# Altium schematic symbol library micro-philips.SCHLIB: 58 symbols
Pins are listed as number, name and electrical type; pins without a type are passive.

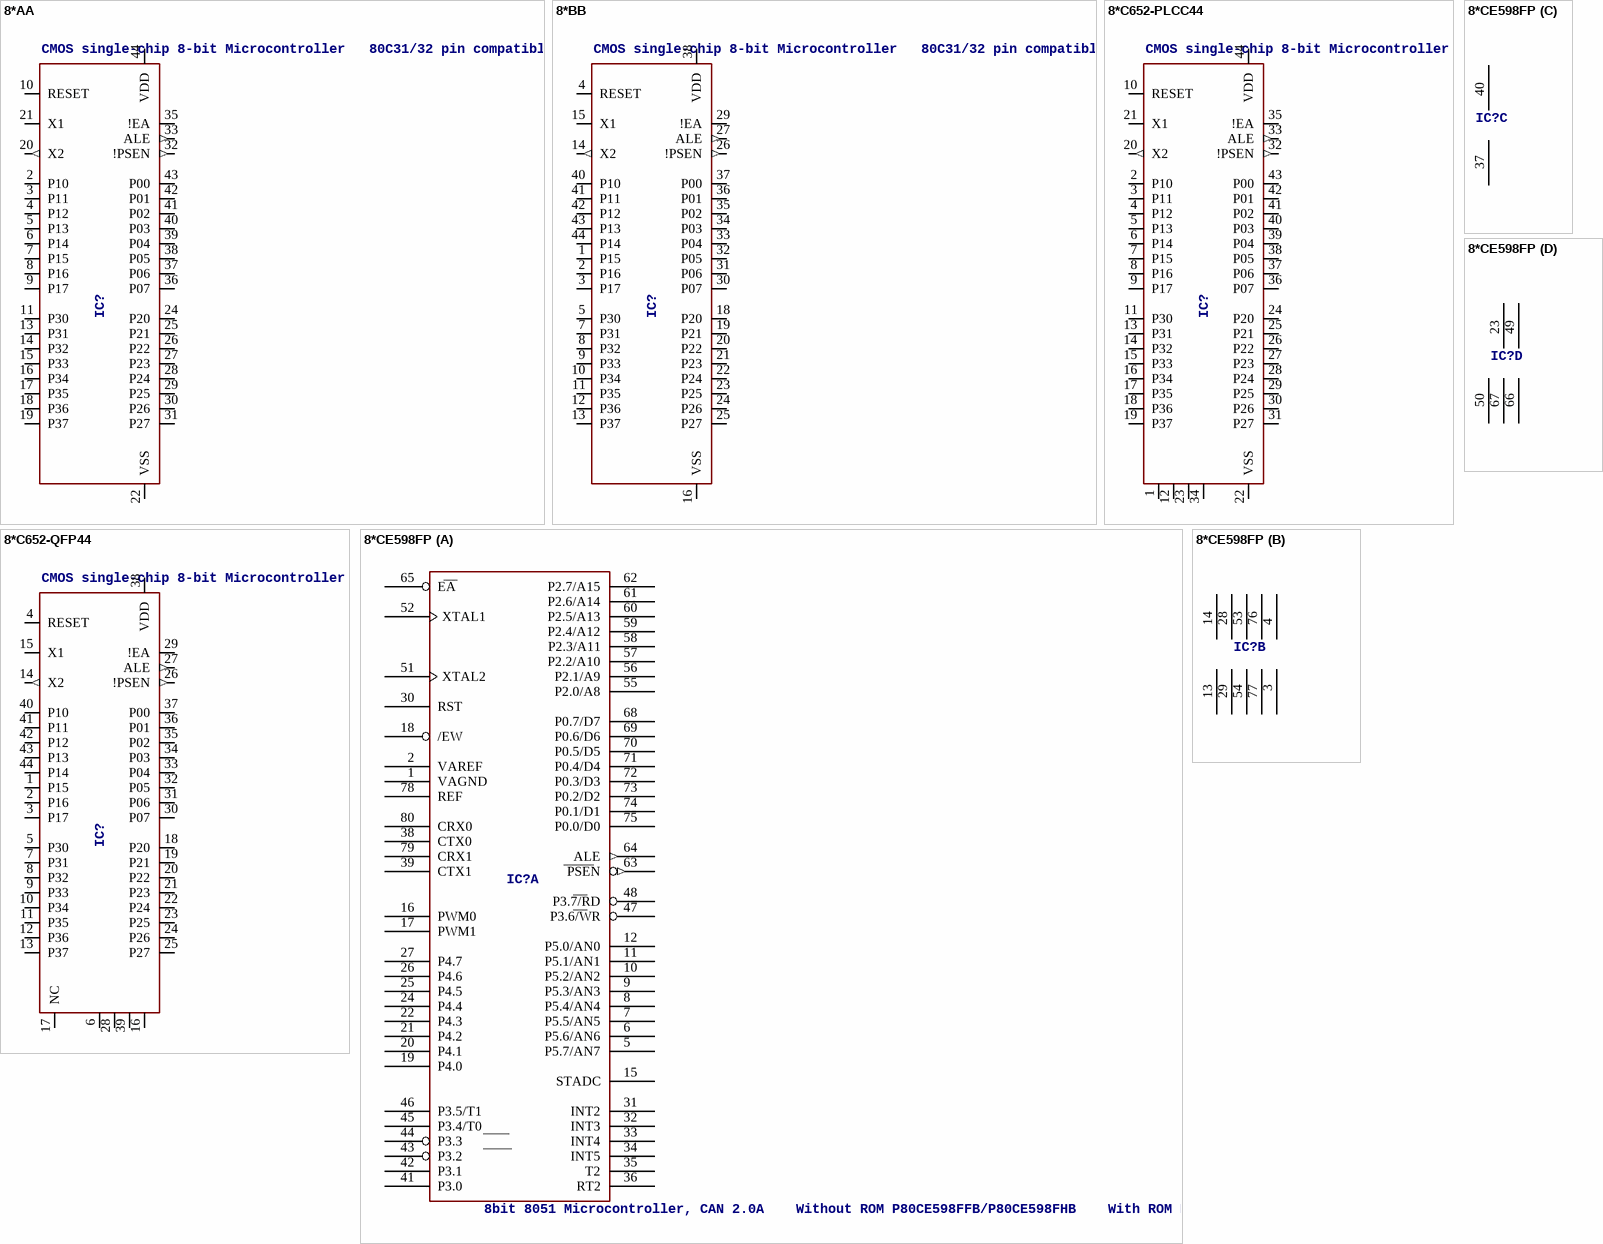
[diagram p0: symbols 8*AA to 8*CE598FP]

## 8*AA
designator IC?, comment CMOS single-chip 8-bit Microcontroller   80C31/32 pin compatible
MPN: P80C31SBAA,512; MPN: P80C32SBAA,512; MPN: P80C32UBAA; MPN: P80C32UFAA,512; OC_FARNELL: 1831226; OC_NEWARK: 70R8431; OC_FARNELL: unknown; OC_NEWARK: unknown; OC_FARNELL: 1831229; OC_NEWARK: 70R8434; OC_FARNELL: 1201265; OC_NEWARK: 24M6583; OC_NEWARK: 70R8437
footprint PLCC44S
pins: 2 P10, 3 P11, 4 P12, 5 P13, 6 P14, 7 P15, 8 P16, 9 P17, 10 RESET, 11 P30, 13 P31, 14 P32, 15 P33, 16 P34, 17 P35, 18 P36, 19 P37, 20 X2 (out), 21 X1, 22 VSS (power), 24 P20, 25 P21, 26 P22, 27 P23, 28 P24, 29 P25, 30 P26, 31 P27, 32 !PSEN (out), 33 ALE (out), 35 !EA, 36 P07, 37 P06, 38 P05, 39 P04, 40 P03, 41 P02, 42 P01, 43 P00, 44 VDD (power)

## 8*BB
designator IC?, comment CMOS single-chip 8-bit Microcontroller   80C31/32 pin compatible
MPN: P80C31SBBB,557; MPN: P80C32UFBB,557; OC_FARNELL: unknown; OC_NEWARK: 70R8432; OC_NEWARK: unknown; OC_NEWARK: 70R8438
footprint QFP44_SOT307-2
pins: 1 P15, 2 P16, 3 P17, 4 RESET, 5 P30, 7 P31, 8 P32, 9 P33, 10 P34, 11 P35, 12 P36, 13 P37, 14 X2 (out), 15 X1, 16 VSS (power), 18 P20, 19 P21, 20 P22, 21 P23, 22 P24, 23 P25, 24 P26, 25 P27, 26 !PSEN (out), 27 ALE (out), 29 !EA, 30 P07, 31 P06, 32 P05, 33 P04, 34 P03, 35 P02, 36 P01, 37 P00, 38 VDD (power), 40 P10, 41 P11, 42 P12, 43 P13, 44 P14

## 8*C652-PLCC44
designator IC?, comment CMOS single-chip 8-bit Microcontroller
OC_FARNELL: unknown; OC_NEWARK: unknown
footprint PLCC44S
pins: 1 NC, 2 P10, 3 P11, 4 P12, 5 P13, 6 P14, 7 P15, 8 P16, 9 P17, 10 RESET, 11 P30, 12 NC@1, 13 P31, 14 P32, 15 P33, 16 P34, 17 P35, 18 P36, 19 P37, 20 X2 (out), 21 X1, 22 VSS (power), 23 NC@2, 24 P20, 25 P21, 26 P22, 27 P23, 28 P24, 29 P25, 30 P26, 31 P27, 32 !PSEN (out), 33 ALE (out), 34 NC@3, 35 !EA, 36 P07, 37 P06, 38 P05, 39 P04, 40 P03, 41 P02, 42 P01, 43 P00, 44 VDD (power)

## 8*C652-QFP44
designator IC?, comment CMOS single-chip 8-bit Microcontroller
OC_FARNELL: unknown; OC_NEWARK: unknown
footprint QFP44_SOT307-2
pins: 1 P15, 2 P16, 3 P17, 4 RESET, 5 P30, 6 VSS@3, 7 P31, 8 P32, 9 P33, 10 P34, 11 P35, 12 P36, 13 P37, 14 X2 (out), 15 X1, 16 VSS (power), 17 NC, 18 P20, 19 P21, 20 P22, 21 P23, 22 P24, 23 P25, 24 P26, 25 P27, 26 !PSEN (out), 27 ALE (out), 28 VSS@2, 29 !EA, 30 P07, 31 P06, 32 P05, 33 P04, 34 P03, 35 P02, 36 P01, 37 P00, 38 VDD (power), 39 VSS@1, 40 P10, 41 P11, 42 P12, 43 P13, 44 P14

## 8*CE598FP
designator IC?, comment 8bit 8051 Microcontroller, CAN 2.0A    Without ROM P80CE598FFB/P80CE598FHB    With ROM P83CE598FFB/P83CE598FHB
OC_FARNELL: unknown; OC_NEWARK: unknown
footprint QFP80
part A pins: 1 VAGND, 2 VAREF, 5 P5.7/AN7, 6 P5.6/AN6, 7 P5.5/AN5, 8 P5.4/AN4, 9 P5.3/AN3, 10 P5.2/AN2, 11 P5.1/AN1, 12 P5.0/AN0, 15 STADC, 16 PWM0, 17 PWM1, 18 /EW, 19 P4.0, 20 P4.1, 21 P4.2, 22 P4.3, 24 P4.4, 25 P4.5, 26 P4.6, 27 P4.7, 30 RST, 31 INT2, 32 INT3, 33 INT4, 34 INT5, 35 T2, 36 RT2, 38 CTX0, 39 CTX1, 41 P3.0, 42 P3.1, 43 P3.2, 44 P3.3, 45 P3.4/T0, 46 P3.5/T1, 47 P3.6/WR, 48 P3.7/RD, 51 XTAL2, 52 XTAL1, 55 P2.0/A8, 56 P2.1/A9, 57 P2.2/A10, 58 P2.3/A11, 59 P2.4/A12, 60 P2.5/A13, 61 P2.6/A14, 62 P2.7/A15, 63 PSEN (out), 64 ALE (out), 65 EA, 68 P0.7/D7, 69 P0.6/D6, 70 P0.5/D5, 71 P0.4/D4, 72 P0.3/D3, 73 P0.2/D2, 74 P0.1/D1, 75 P0.0/D0, 78 REF, 79 CRX1, 80 CRX0
part B pins: 3 GND@4 (power), 4 VCC@4 (power), 13 GND@0 (power), 14 VCC@0 (power), 28 VCC@1 (power), 29 GND@1 (power), 53 VCC@2 (power), 54 GND@2 (power), 76 VCC@3 (power), 77 GND@3 (power)
part C pins: 37 CGND (power), 40 CVCC (power)
part D pins: 23 NC@0, 49 NC@1, 50 NC@2, 66 NC@3, 67 NC@4

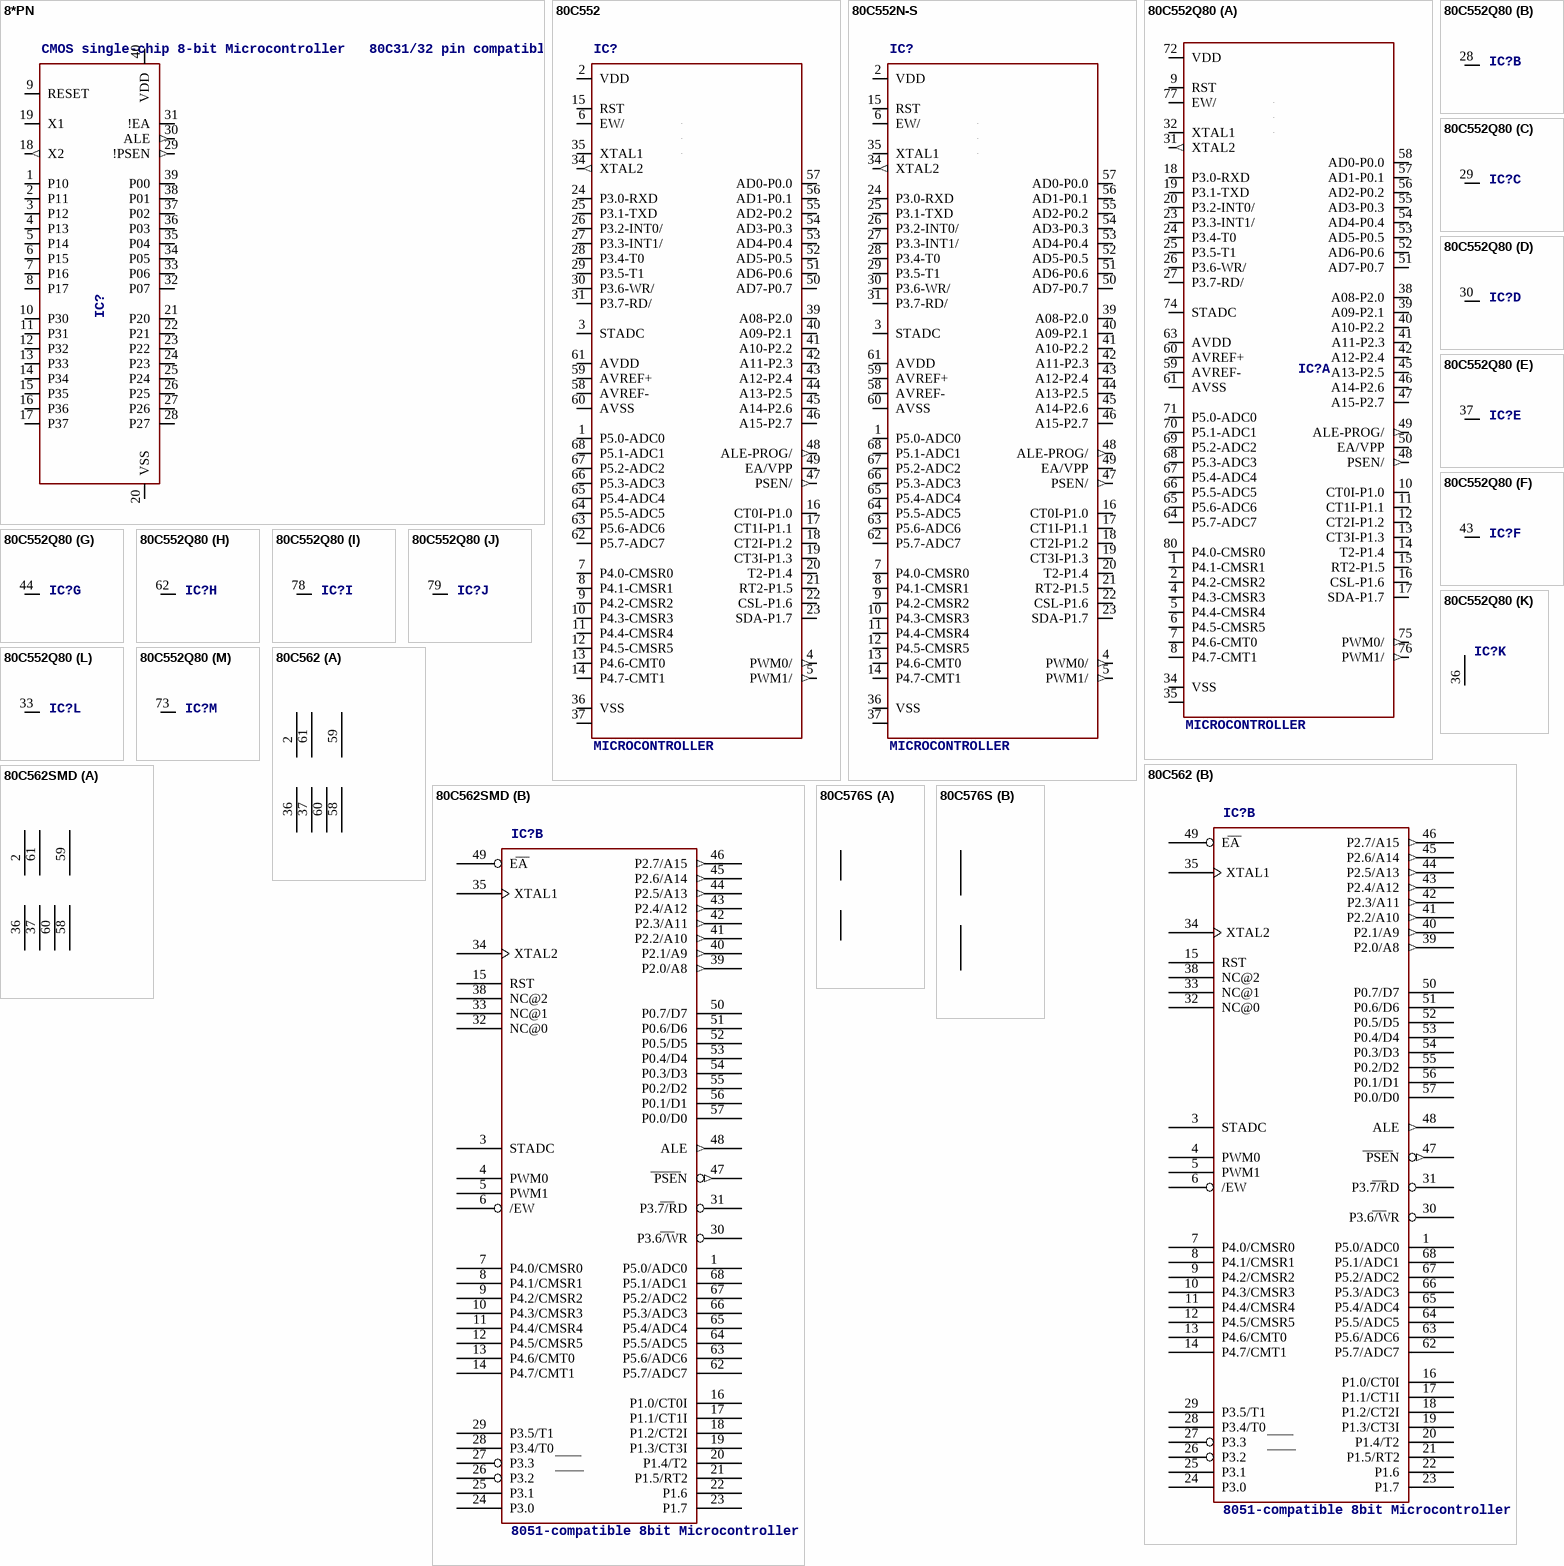
[diagram p1: symbols 8*PN to 80C576S]

## 8*PN
designator IC?, comment CMOS single-chip 8-bit Microcontroller   80C31/32 pin compatible
MPN: P80C31SBPN; MPN: P80C32SBPN; MF: FARNELL; OC_FARNELL: 120509; OC_NEWARK: 67C9971; OC_FARNELL: 121071; OC_NEWARK: 67C9973; OC_FARNELL: unknown; OC_NEWARK: unknown
footprint DIL40
pins: 1 P10, 2 P11, 3 P12, 4 P13, 5 P14, 6 P15, 7 P16, 8 P17, 9 RESET, 10 P30, 11 P31, 12 P32, 13 P33, 14 P34, 15 P35, 16 P36, 17 P37, 18 X2 (out), 19 X1, 20 VSS (power), 21 P20, 22 P21, 23 P22, 24 P23, 25 P24, 26 P25, 27 P26, 28 P27, 29 !PSEN (out), 30 ALE (out), 31 !EA, 32 P07, 33 P06, 34 P05, 35 P04, 36 P03, 37 P02, 38 P01, 39 P00, 40 VDD (power)

## 80C552
designator IC?, comment MICROCONTROLLER
MPN: P80C552IBA/08,512; OC_FARNELL: 1831232; OC_NEWARK: 70R8448
footprint PLCC68
pins: 1 P5.0-ADC0, 2 VDD (power), 3 STADC, 4 PWM0/ (out), 5 PWM1/ (out), 6 EW/, 7 P4.0-CMSR0, 8 P4.1-CMSR1, 9 P4.2-CMSR2, 10 P4.3-CMSR3, 11 P4.4-CMSR4, 12 P4.5-CMSR5, 13 P4.6-CMT0, 14 P4.7-CMT1, 15 RST, 16 CT0I-P1.0, 17 CT1I-P1.1, 18 CT2I-P1.2, 19 CT3I-P1.3, 20 T2-P1.4, 21 RT2-P1.5, 22 CSL-P1.6, 23 SDA-P1.7, 24 P3.0-RXD, 25 P3.1-TXD, 26 P3.2-INT0/, 27 P3.3-INT1/, 28 P3.4-T0, 29 P3.5-T1, 30 P3.6-WR/, 31 P3.7-RD/, 32 NC1, 33 NC2, 34 XTAL2 (out), 35 XTAL1, 36 VSS (power), 37 VSS@1 (power), 38 NC3, 39 A08-P2.0, 40 A09-P2.1, 41 A10-P2.2, 42 A11-P2.3, 43 A12-P2.4, 44 A13-P2.5, 45 A14-P2.6, 46 A15-P2.7, 47 PSEN/ (out), 48 ALE-PROG/ (out), 49 EA/VPP, 50 AD7-P0.7, 51 AD6-P0.6, 52 AD5-P0.5, 53 AD4-P0.4, 54 AD3-P0.3, 55 AD2-P0.2, 56 AD1-P0.1, 57 AD0-P0.0, 58 AVREF-, 59 AVREF+, 60 AVSS, 61 AVDD, 62 P5.7-ADC7, 63 P5.6-ADC6, 64 P5.5-ADC5, 65 P5.4-ADC4, 66 P5.3-ADC3, 67 P5.2-ADC2, 68 P5.1-ADC1

## 80C552N-S
designator IC?, comment MICROCONTROLLER
MPN: P80C552IBA/08,512; OC_FARNELL: 1831233; OC_NEWARK: 70R8448
footprint PLCC-S68
pins: 1 P5.0-ADC0, 2 VDD (power), 3 STADC, 4 PWM0/ (out), 5 PWM1/ (out), 6 EW/, 7 P4.0-CMSR0, 8 P4.1-CMSR1, 9 P4.2-CMSR2, 10 P4.3-CMSR3, 11 P4.4-CMSR4, 12 P4.5-CMSR5, 13 P4.6-CMT0, 14 P4.7-CMT1, 15 RST, 16 CT0I-P1.0, 17 CT1I-P1.1, 18 CT2I-P1.2, 19 CT3I-P1.3, 20 T2-P1.4, 21 RT2-P1.5, 22 CSL-P1.6, 23 SDA-P1.7, 24 P3.0-RXD, 25 P3.1-TXD, 26 P3.2-INT0/, 27 P3.3-INT1/, 28 P3.4-T0, 29 P3.5-T1, 30 P3.6-WR/, 31 P3.7-RD/, 32 NC1, 33 NC2, 34 XTAL2 (out), 35 XTAL1, 36 VSS (power), 37 VSS@1 (power), 38 NC3, 39 A08-P2.0, 40 A09-P2.1, 41 A10-P2.2, 42 A11-P2.3, 43 A12-P2.4, 44 A13-P2.5, 45 A14-P2.6, 46 A15-P2.7, 47 PSEN/ (out), 48 ALE-PROG/ (out), 49 EA/VPP, 50 AD7-P0.7, 51 AD6-P0.6, 52 AD5-P0.5, 53 AD4-P0.4, 54 AD3-P0.3, 55 AD2-P0.2, 56 AD1-P0.1, 57 AD0-P0.0, 58 AVREF-, 59 AVREF+, 60 AVSS, 61 AVDD, 62 P5.7-ADC7, 63 P5.6-ADC6, 64 P5.5-ADC5, 65 P5.4-ADC4, 66 P5.3-ADC3, 67 P5.2-ADC2, 68 P5.1-ADC1

## 80C552Q80
designator IC?, comment MICROCONTROLLER
OC_FARNELL: unknown; OC_NEWARK: unknown
footprint QFP80R
part A pins: 1 P4.1-CMSR1, 2 P4.2-CMSR2, 3 NC1, 4 P4.3-CMSR3, 5 P4.4-CMSR4, 6 P4.5-CMSR5, 7 P4.6-CMT0, 8 P4.7-CMT1, 9 RST, 10 CT0I-P1.0, 11 CT1I-P1.1, 12 CT2I-P1.2, 13 CT3I-P1.3, 14 T2-P1.4, 15 RT2-P1.5, 16 CSL-P1.6, 17 SDA-P1.7, 18 P3.0-RXD, 19 P3.1-TXD, 20 P3.2-INT0/, 21 NC2, 22 NC3, 23 P3.3-INT1/, 24 P3.4-T0, 25 P3.5-T1, 26 P3.6-WR/, 27 P3.7-RD/, 31 XTAL2 (out), 32 XTAL1, 34 VSS (power), 35 VSS@1 (power), 38 A08-P2.0, 39 A09-P2.1, 40 A10-P2.2, 41 A11-P2.3, 42 A12-P2.4, 45 A13-P2.5, 46 A14-P2.6, 47 A15-P2.7, 48 PSEN/ (out), 49 ALE-PROG/ (out), 50 EA/VPP, 51 AD7-P0.7, 52 AD6-P0.6, 53 AD5-P0.5, 54 AD4-P0.4, 55 AD3-P0.3, 56 AD2-P0.2, 57 AD1-P0.1, 58 AD0-P0.0, 59 AVREF-, 60 AVREF+, 61 AVSS, 63 AVDD, 64 P5.7-ADC7, 65 P5.6-ADC6, 66 P5.5-ADC5, 67 P5.4-ADC4, 68 P5.3-ADC3, 69 P5.2-ADC2, 70 P5.1-ADC1, 71 P5.0-ADC0, 72 VDD (power), 74 STADC, 75 PWM0/ (out), 76 PWM1/ (out), 77 EW/, 80 P4.0-CMSR0
part B pins: 28 NC
part C pins: 29 NC
part D pins: 30 NC
part E pins: 37 NC
part F pins: 43 NC
part G pins: 44 NC
part H pins: 62 NC
part I pins: 78 NC
part J pins: 79 NC
part K pins: 36 VSS (power)
part L pins: 33 IC-NU
part M pins: 73 IC-NU

## 80C562
designator IC?, comment 8051-compatible 8bit Microcontroller
MPN: P80C562EBA/02,512; OC_FARNELL: 121198; OC_NEWARK: 70R8452
footprint PLCC-S68
part A pins: 2 VDD (power), 36 VSS@0 (power), 37 VSS@1 (power), 58 AVREF- (power), 59 VREF (power), 60 AVSS (power), 61 AVDD (power)
part B pins: 1 P5.0/ADC0, 3 STADC, 4 PWM0, 5 PWM1, 6 /EW, 7 P4.0/CMSR0, 8 P4.1/CMSR1, 9 P4.2/CMSR2, 10 P4.3/CMSR3, 11 P4.4/CMSR4, 12 P4.5/CMSR5, 13 P4.6/CMT0, 14 P4.7/CMT1, 15 RST, 16 P1.0/CT0I, 17 P1.1/CT1I, 18 P1.2/CT2I, 19 P1.3/CT3I, 20 P1.4/T2, 21 P1.5/RT2, 22 P1.6, 23 P1.7, 24 P3.0, 25 P3.1, 26 P3.2, 27 P3.3, 28 P3.4/T0, 29 P3.5/T1, 30 P3.6/WR, 31 P3.7/RD, 32 NC@0, 33 NC@1, 34 XTAL2, 35 XTAL1, 38 NC@2, 39 P2.0/A8 (out), 40 P2.1/A9 (out), 41 P2.2/A10 (out), 42 P2.3/A11 (out), 43 P2.4/A12 (out), 44 P2.5/A13 (out), 45 P2.6/A14 (out), 46 P2.7/A15 (out), 47 PSEN (out), 48 ALE (out), 49 EA, 50 P0.7/D7, 51 P0.6/D6, 52 P0.5/D5, 53 P0.4/D4, 54 P0.3/D3, 55 P0.2/D2, 56 P0.1/D1, 57 P0.0/D0, 62 P5.7/ADC7, 63 P5.6/ADC6, 64 P5.5/ADC5, 65 P5.4/ADC4, 66 P5.3/ADC3, 67 P5.2/ADC2, 68 P5.1/ADC1

## 80C562SMD
designator IC?, comment 8051-compatible 8bit Microcontroller
OC_FARNELL: unknown; OC_NEWARK: unknown
footprint PLCC68
part A pins: 2 VDD (power), 36 VSS@0 (power), 37 VSS@1 (power), 58 AVREF- (power), 59 VREF (power), 60 AVSS (power), 61 AVDD (power)
part B pins: 1 P5.0/ADC0, 3 STADC, 4 PWM0, 5 PWM1, 6 /EW, 7 P4.0/CMSR0, 8 P4.1/CMSR1, 9 P4.2/CMSR2, 10 P4.3/CMSR3, 11 P4.4/CMSR4, 12 P4.5/CMSR5, 13 P4.6/CMT0, 14 P4.7/CMT1, 15 RST, 16 P1.0/CT0I, 17 P1.1/CT1I, 18 P1.2/CT2I, 19 P1.3/CT3I, 20 P1.4/T2, 21 P1.5/RT2, 22 P1.6, 23 P1.7, 24 P3.0, 25 P3.1, 26 P3.2, 27 P3.3, 28 P3.4/T0, 29 P3.5/T1, 30 P3.6/WR, 31 P3.7/RD, 32 NC@0, 33 NC@1, 34 XTAL2, 35 XTAL1, 38 NC@2, 39 P2.0/A8 (out), 40 P2.1/A9 (out), 41 P2.2/A10 (out), 42 P2.3/A11 (out), 43 P2.4/A12 (out), 44 P2.5/A13 (out), 45 P2.6/A14 (out), 46 P2.7/A15 (out), 47 PSEN (out), 48 ALE (out), 49 EA, 50 P0.7/D7, 51 P0.6/D6, 52 P0.5/D5, 53 P0.4/D4, 54 P0.3/D3, 55 P0.2/D2, 56 P0.1/D1, 57 P0.0/D0, 62 P5.7/ADC7, 63 P5.6/ADC6, 64 P5.5/ADC5, 65 P5.4/ADC4, 66 P5.3/ADC3, 67 P5.2/ADC2, 68 P5.1/ADC1

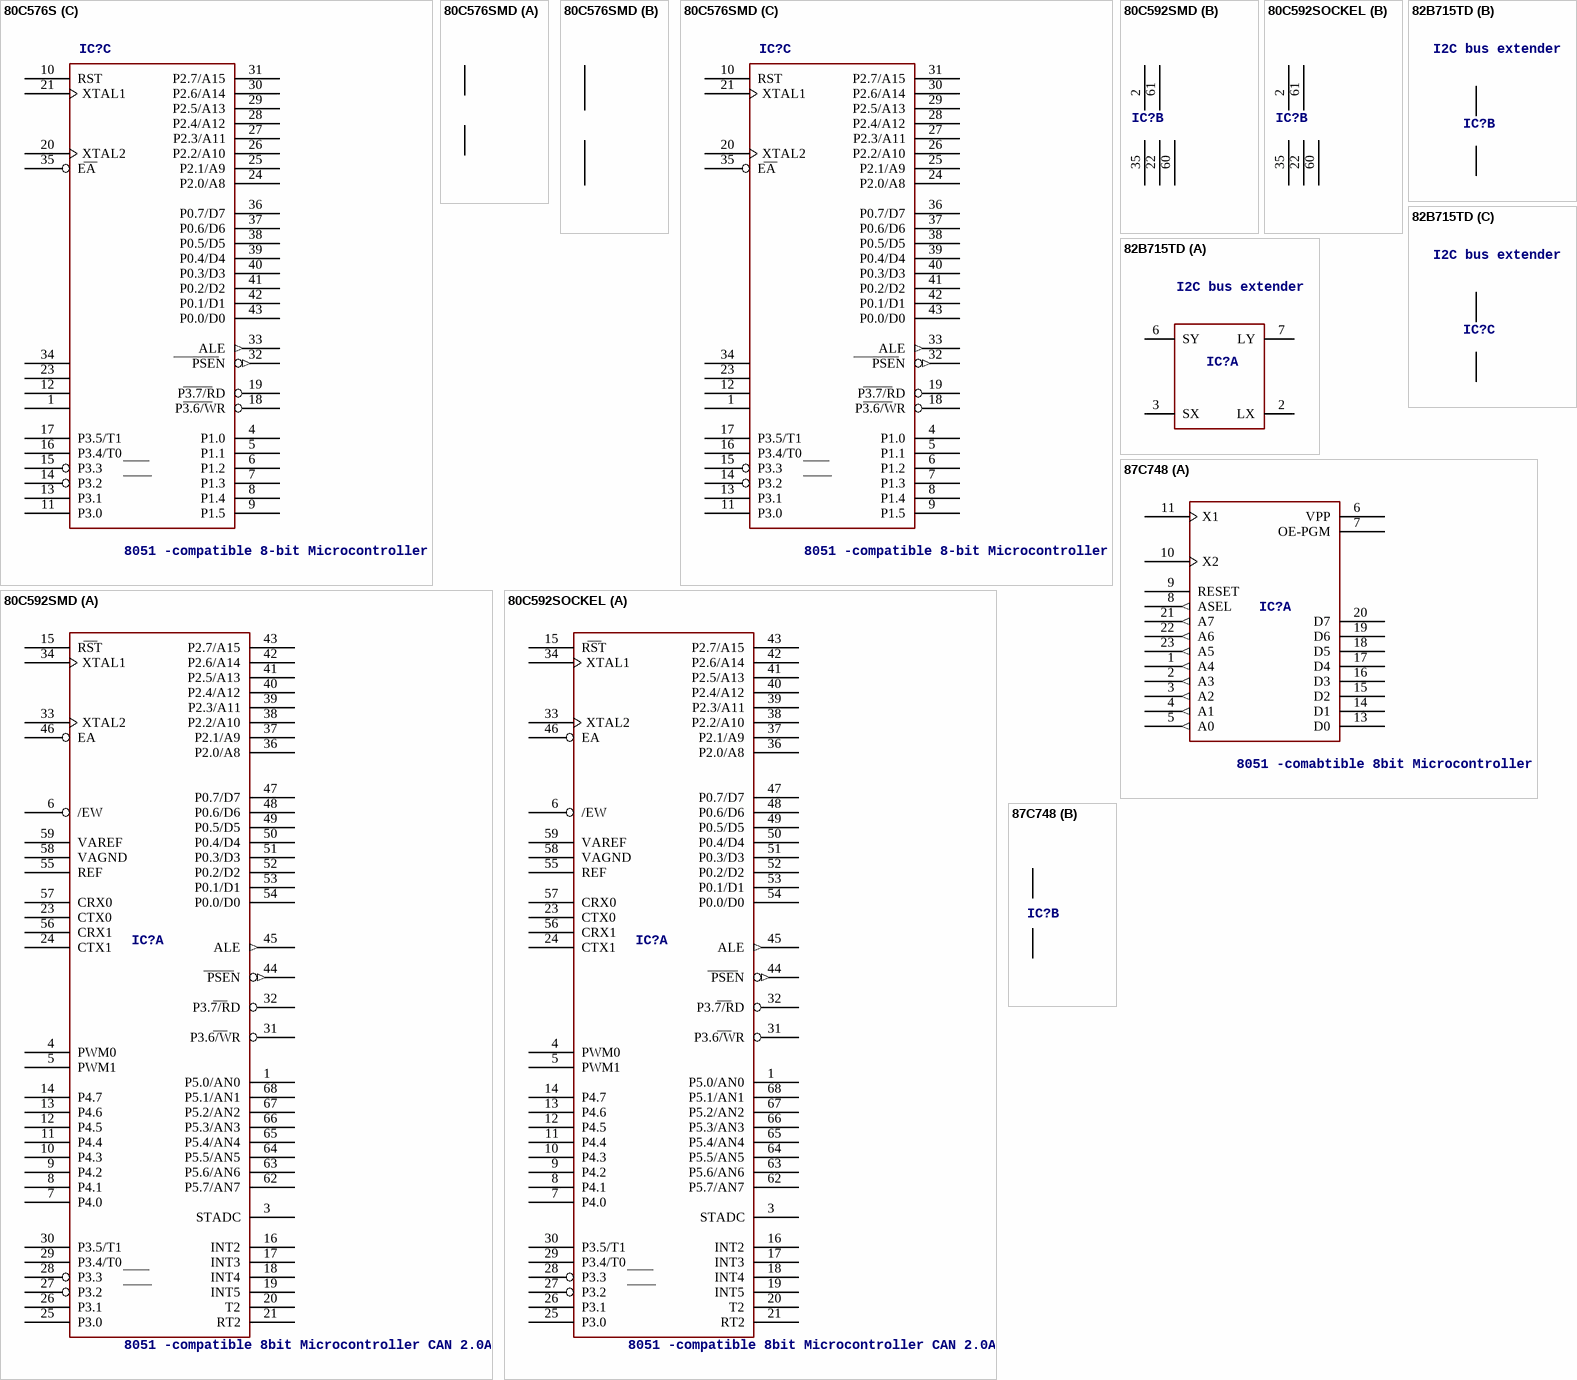
[diagram p2: symbols 80C576S to 87C748]

## 80C576S
designator IC?, comment 8051 -compatible 8-bit Microcontroller
OC_FARNELL: unknown; OC_NEWARK: unknown
footprint PLCC44S
part A pins: 22 GND (power), 44 VCC (power)
part B pins: 2 AVCC (power), 3 AGND (power)
part C pins: 1 NC@0, 4 P1.0, 5 P1.1, 6 P1.2, 7 P1.3, 8 P1.4, 9 P1.5, 10 RST, 11 P3.0, 12 NC@1, 13 P3.1, 14 P3.2, 15 P3.3, 16 P3.4/T0, 17 P3.5/T1, 18 P3.6/WR, 19 P3.7/RD, 20 XTAL2, 21 XTAL1, 23 NC@2, 24 P2.0/A8, 25 P2.1/A9, 26 P2.2/A10, 27 P2.3/A11, 28 P2.4/A12, 29 P2.5/A13, 30 P2.6/A14, 31 P2.7/A15, 32 PSEN (out), 33 ALE (out), 34 NC@3, 35 EA, 36 P0.7/D7, 37 P0.6/D6, 38 P0.5/D5, 39 P0.4/D4, 40 P0.3/D3, 41 P0.2/D2, 42 P0.1/D1, 43 P0.0/D0

## 80C576SMD
designator IC?, comment 8051 -compatible 8-bit Microcontroller
OC_FARNELL: unknown; OC_NEWARK: unknown
footprint PLCC44
part A pins: 22 GND (power), 44 VCC (power)
part B pins: 2 AVCC (power), 3 AGND (power)
part C pins: 1 NC@0, 4 P1.0, 5 P1.1, 6 P1.2, 7 P1.3, 8 P1.4, 9 P1.5, 10 RST, 11 P3.0, 12 NC@1, 13 P3.1, 14 P3.2, 15 P3.3, 16 P3.4/T0, 17 P3.5/T1, 18 P3.6/WR, 19 P3.7/RD, 20 XTAL2, 21 XTAL1, 23 NC@2, 24 P2.0/A8, 25 P2.1/A9, 26 P2.2/A10, 27 P2.3/A11, 28 P2.4/A12, 29 P2.5/A13, 30 P2.6/A14, 31 P2.7/A15, 32 PSEN (out), 33 ALE (out), 34 NC@3, 35 EA, 36 P0.7/D7, 37 P0.6/D6, 38 P0.5/D5, 39 P0.4/D4, 40 P0.3/D3, 41 P0.2/D2, 42 P0.1/D1, 43 P0.0/D0

## 80C592SMD
designator IC?, comment 8051 -compatible 8bit Microcontroller CAN 2.0A
MPN: P80C592FFA/00,512; OC_FARNELL: 1085276; OC_NEWARK: 70R8453
footprint PLCC68
part A pins: 1 P5.0/AN0, 3 STADC, 4 PWM0, 5 PWM1, 6 /EW, 7 P4.0, 8 P4.1, 9 P4.2, 10 P4.3, 11 P4.4, 12 P4.5, 13 P4.6, 14 P4.7, 15 RST, 16 INT2, 17 INT3, 18 INT4, 19 INT5, 20 T2, 21 RT2, 23 CTX0, 24 CTX1, 25 P3.0, 26 P3.1, 27 P3.2, 28 P3.3, 29 P3.4/T0, 30 P3.5/T1, 31 P3.6/WR, 32 P3.7/RD, 33 XTAL2, 34 XTAL1, 36 P2.0/A8, 37 P2.1/A9, 38 P2.2/A10, 39 P2.3/A11, 40 P2.4/A12, 41 P2.5/A13, 42 P2.6/A14, 43 P2.7/A15, 44 PSEN (out), 45 ALE (out), 46 EA, 47 P0.7/D7, 48 P0.6/D6, 49 P0.5/D5, 50 P0.4/D4, 51 P0.3/D3, 52 P0.2/D2, 53 P0.1/D1, 54 P0.0/D0, 55 REF, 56 CRX1, 57 CRX0, 58 VAGND, 59 VAREF, 62 P5.7/AN7, 63 P5.6/AN6, 64 P5.5/AN5, 65 P5.4/AN4, 66 P5.3/AN3, 67 P5.2/AN2, 68 P5.1/AN1
part B pins: 2 VCC (power), 22 CGND (power), 35 GND (power), 60 AGND (power), 61 AVCC (power)

## 80C592SOCKEL
designator IC?, comment 8051 -compatible 8bit Microcontroller CAN 2.0A
OC_FARNELL: unknown; OC_NEWARK: unknown
footprint PLCC-S68
part A pins: 1 P5.0/AN0, 3 STADC, 4 PWM0, 5 PWM1, 6 /EW, 7 P4.0, 8 P4.1, 9 P4.2, 10 P4.3, 11 P4.4, 12 P4.5, 13 P4.6, 14 P4.7, 15 RST, 16 INT2, 17 INT3, 18 INT4, 19 INT5, 20 T2, 21 RT2, 23 CTX0, 24 CTX1, 25 P3.0, 26 P3.1, 27 P3.2, 28 P3.3, 29 P3.4/T0, 30 P3.5/T1, 31 P3.6/WR, 32 P3.7/RD, 33 XTAL2, 34 XTAL1, 36 P2.0/A8, 37 P2.1/A9, 38 P2.2/A10, 39 P2.3/A11, 40 P2.4/A12, 41 P2.5/A13, 42 P2.6/A14, 43 P2.7/A15, 44 PSEN (out), 45 ALE (out), 46 EA, 47 P0.7/D7, 48 P0.6/D6, 49 P0.5/D5, 50 P0.4/D4, 51 P0.3/D3, 52 P0.2/D2, 53 P0.1/D1, 54 P0.0/D0, 55 REF, 56 CRX1, 57 CRX0, 58 VAGND, 59 VAREF, 62 P5.7/AN7, 63 P5.6/AN6, 64 P5.5/AN5, 65 P5.4/AN4, 66 P5.3/AN3, 67 P5.2/AN2, 68 P5.1/AN1
part B pins: 2 VCC (power), 22 CGND (power), 35 GND (power), 60 AGND (power), 61 AVCC (power)

## 82B715TD
designator IC?, comment I2C bus extender
MPN: P82B715TD,118; OC_FARNELL: 1627047; OC_NEWARK: 70R8457
footprint SO8
part A pins: 2 LX, 3 SX, 6 SY, 7 LY
part B pins: 4 GND (power), 8 VCC (power)
part C pins: 1 NC@1, 5 NC@0

## 87C748
designator IC?, comment 8051 -comabtible 8bit Microcontroller
OC_FARNELL: unknown; OC_NEWARK: unknown
footprint DIP24SKI
part A pins: 1 A4 (out), 2 A3 (out), 3 A2 (out), 4 A1 (out), 5 A0 (out), 6 VPP (power), 7 OE-PGM, 8 ASEL (out), 9 RESET, 10 X2, 11 X1, 13 D0 (hiz), 14 D1 (hiz), 15 D2 (hiz), 16 D3 (hiz), 17 D4 (hiz), 18 D5 (hiz), 19 D6 (hiz), 20 D7 (hiz), 21 A7 (out), 22 A6 (out), 23 A5 (out)
part B pins: 12 GND (power), 24 VCC (power)

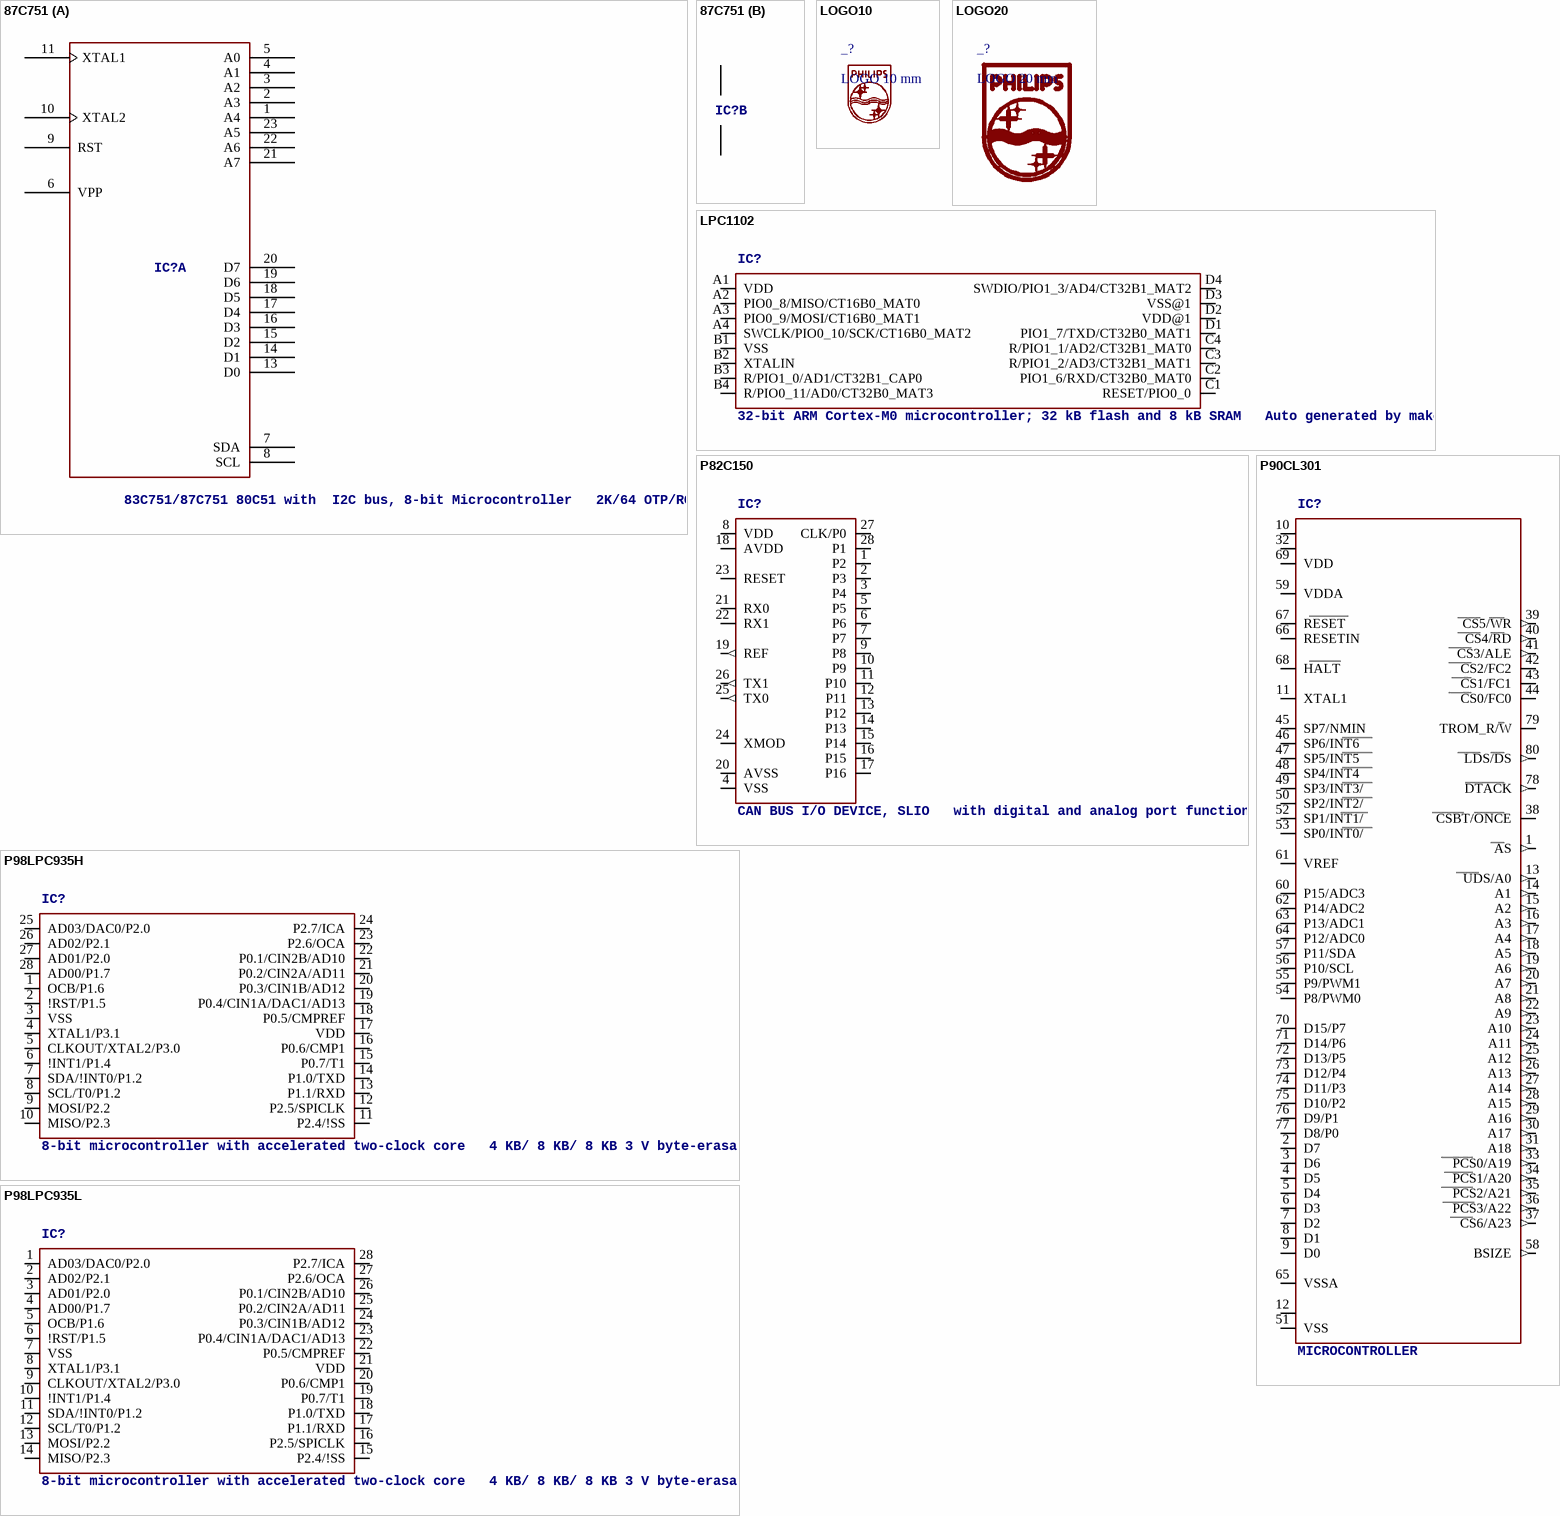
[diagram p3: symbols 87C751 to P98LPC935L]

## 87C751
designator IC?, comment 83C751/87C751 80C51 with  I2C bus, 8-bit Microcontroller   2K/64 OTP/ROM
OC_FARNELL: unknown; OC_NEWARK: unknown
footprint DIP24SKI
part A pins: 1 A4, 2 A3, 3 A2, 4 A1, 5 A0, 6 VPP (power), 7 SDA, 8 SCL, 9 RST, 10 XTAL2, 11 XTAL1, 13 D0, 14 D1, 15 D2, 16 D3, 17 D4, 18 D5, 19 D6, 20 D7, 21 A7, 22 A6, 23 A5
part B pins: 12 GND (power), 24 VCC (power)

## LOGO10
designator _?, comment LOGO 10 mm

## LOGO20
designator _?, comment LOGO 20 mm

## LPC1102
designator IC?, comment 32-bit ARM Cortex-M0 microcontroller; 32 kB flash and 8 kB SRAM   Auto generated by make-symbol-device-package-bsdl.ulp Rev. 43 Source:  Data sheet
footprint WLCSP16
pins: A1 VDD (power), A2 PIO0_8/MISO/CT16B0_MAT0, A3 PIO0_9/MOSI/CT16B0_MAT1, A4 SWCLK/PIO0_10/SCK/CT16B0_MAT2, B1 VSS (power), B2 XTALIN, B3 R/PIO1_0/AD1/CT32B1_CAP0, B4 R/PIO0_11/AD0/CT32B0_MAT3, C1 RESET/PIO0_0, C2 PIO1_6/RXD/CT32B0_MAT0, C3 R/PIO1_2/AD3/CT32B1_MAT1, C4 R/PIO1_1/AD2/CT32B1_MAT0, D1 PIO1_7/TXD/CT32B0_MAT1, D2 VDD@1 (power), D3 VSS@1 (power), D4 SWDIO/PIO1_3/AD4/CT32B1_MAT2

## P82C150
designator IC?, comment CAN BUS I/O DEVICE, SLIO   with digital and analog port functions
OC_FARNELL: unknown; OC_NEWARK: unknown
footprint SO28
pins: 1 P2, 2 P3, 3 P4, 4 VSS (power), 5 P5, 6 P6, 7 P7, 8 VDD (power), 9 P8, 10 P9, 11 P10, 12 P11, 13 P12, 14 P13, 15 P14, 16 P15, 17 P16, 18 AVDD, 19 REF (out), 20 AVSS, 21 RX0, 22 RX1, 23 RESET, 24 XMOD, 25 TX0 (out), 26 TX1 (out), 27 CLK/P0, 28 P1

## P90CL301
designator IC?, comment MICROCONTROLLER
OC_FARNELL: unknown; OC_NEWARK: unknown
footprint QFP12-80
pins: 1 AS (out), 2 D7, 3 D6, 4 D5, 5 D4, 6 D3, 7 D2, 8 D1, 9 D0, 10 VDD@2 (power), 11 XTAL1, 12 VSS@1 (power), 13 UDS/A0 (out), 14 A1 (out), 15 A2 (out), 16 A3 (out), 17 A4 (out), 18 A5 (out), 19 A6 (out), 20 A7 (out), 21 A8 (out), 22 A9 (out), 23 A10 (out), 24 A11 (out), 25 A12 (out), 26 A13 (out), 27 A14 (out), 28 A15 (out), 29 A16 (out), 30 A17 (out), 31 A18 (out), 32 VDD@1 (power), 33 PCS0/A19 (out), 34 PCS1/A20 (out), 35 PCS2/A21 (out), 36 PCS3/A22 (out), 37 CS6/A23 (out), 38 CSBT/ONCE, 39 CS5/WR (out), 40 CS4/RD (out), 41 CS3/ALE (out), 42 CS2/FC2, 43 CS1/FC1, 44 CS0/FC0, 45 SP7/NMIN, 46 SP6/INT6, 47 SP5/INT5, 48 SP4/INT4, 49 SP3/INT3/, 50 SP2/INT2/, 51 VSS (power), 52 SP1/INT1/, 53 SP0/INT0/, 54 P8/PWM0, 55 P9/PWM1, 56 P10/SCL, 57 P11/SDA, 58 BSIZE (out), 59 VDDA (power), 60 P15/ADC3, 61 VREF, 62 P14/ADC2, 63 P13/ADC1, 64 P12/ADC0, 65 VSSA (power), 66 RESETIN, 67 RESET, 68 HALT, 69 VDD (power), 70 D15/P7, 71 D14/P6, 72 D13/P5, 73 D12/P4, 74 D11/P3, 75 D10/P2, 76 D9/P1, 77 D8/P0, 78 DTACK (out), 79 TROM_R/W, 80 LDS/DS (out)

## P98LPC935H
designator IC?, comment 8-bit microcontroller with accelerated two-clock core   4 KB/ 8 KB/ 8 KB 3 V byte-erasable Flash with 8-bit A/D converter Source: http://www.nxp.com .. UM_P89LPC933_934_935_1.pdf
OC_FARNELL: unknown; OC_NEWARK: unknown
footprint HVQFN28
pins: 1 OCB/P1.6, 2 !RST/P1.5, 3 VSS, 4 XTAL1/P3.1, 5 CLKOUT/XTAL2/P3.0, 6 !INT1/P1.4, 7 SDA/!INT0/P1.2, 8 SCL/T0/P1.2, 9 MOSI/P2.2, 10 MISO/P2.3, 11 P2.4/!SS, 12 P2.5/SPICLK, 13 P1.1/RXD, 14 P1.0/TXD, 15 P0.7/T1, 16 P0.6/CMP1, 17 VDD, 18 P0.5/CMPREF, 19 P0.4/CIN1A/DAC1/AD13, 20 P0.3/CIN1B/AD12, 21 P0.2/CIN2A/AD11, 22 P0.1/CIN2B/AD10, 23 P2.6/OCA, 24 P2.7/ICA, 25 AD03/DAC0/P2.0, 26 AD02/P2.1, 27 AD01/P2.0, 28 AD00/P1.7

## P98LPC935L
designator IC?, comment 8-bit microcontroller with accelerated two-clock core   4 KB/ 8 KB/ 8 KB 3 V byte-erasable Flash with 8-bit A/D converter Source: http://www.nxp.com .. UM_P89LPC933_934_935_1.pdf
OC_FARNELL: unknown; OC_NEWARK: unknown
footprint PLCC28S
pins: 1 AD03/DAC0/P2.0, 2 AD02/P2.1, 3 AD01/P2.0, 4 AD00/P1.7, 5 OCB/P1.6, 6 !RST/P1.5, 7 VSS, 8 XTAL1/P3.1, 9 CLKOUT/XTAL2/P3.0, 10 !INT1/P1.4, 11 SDA/!INT0/P1.2, 12 SCL/T0/P1.2, 13 MOSI/P2.2, 14 MISO/P2.3, 15 P2.4/!SS, 16 P2.5/SPICLK, 17 P1.1/RXD, 18 P1.0/TXD, 19 P0.7/T1, 20 P0.6/CMP1, 21 VDD, 22 P0.5/CMPREF, 23 P0.4/CIN1A/DAC1/AD13, 24 P0.3/CIN1B/AD12, 25 P0.2/CIN2A/AD11, 26 P0.1/CIN2B/AD10, 27 P2.6/OCA, 28 P2.7/ICA

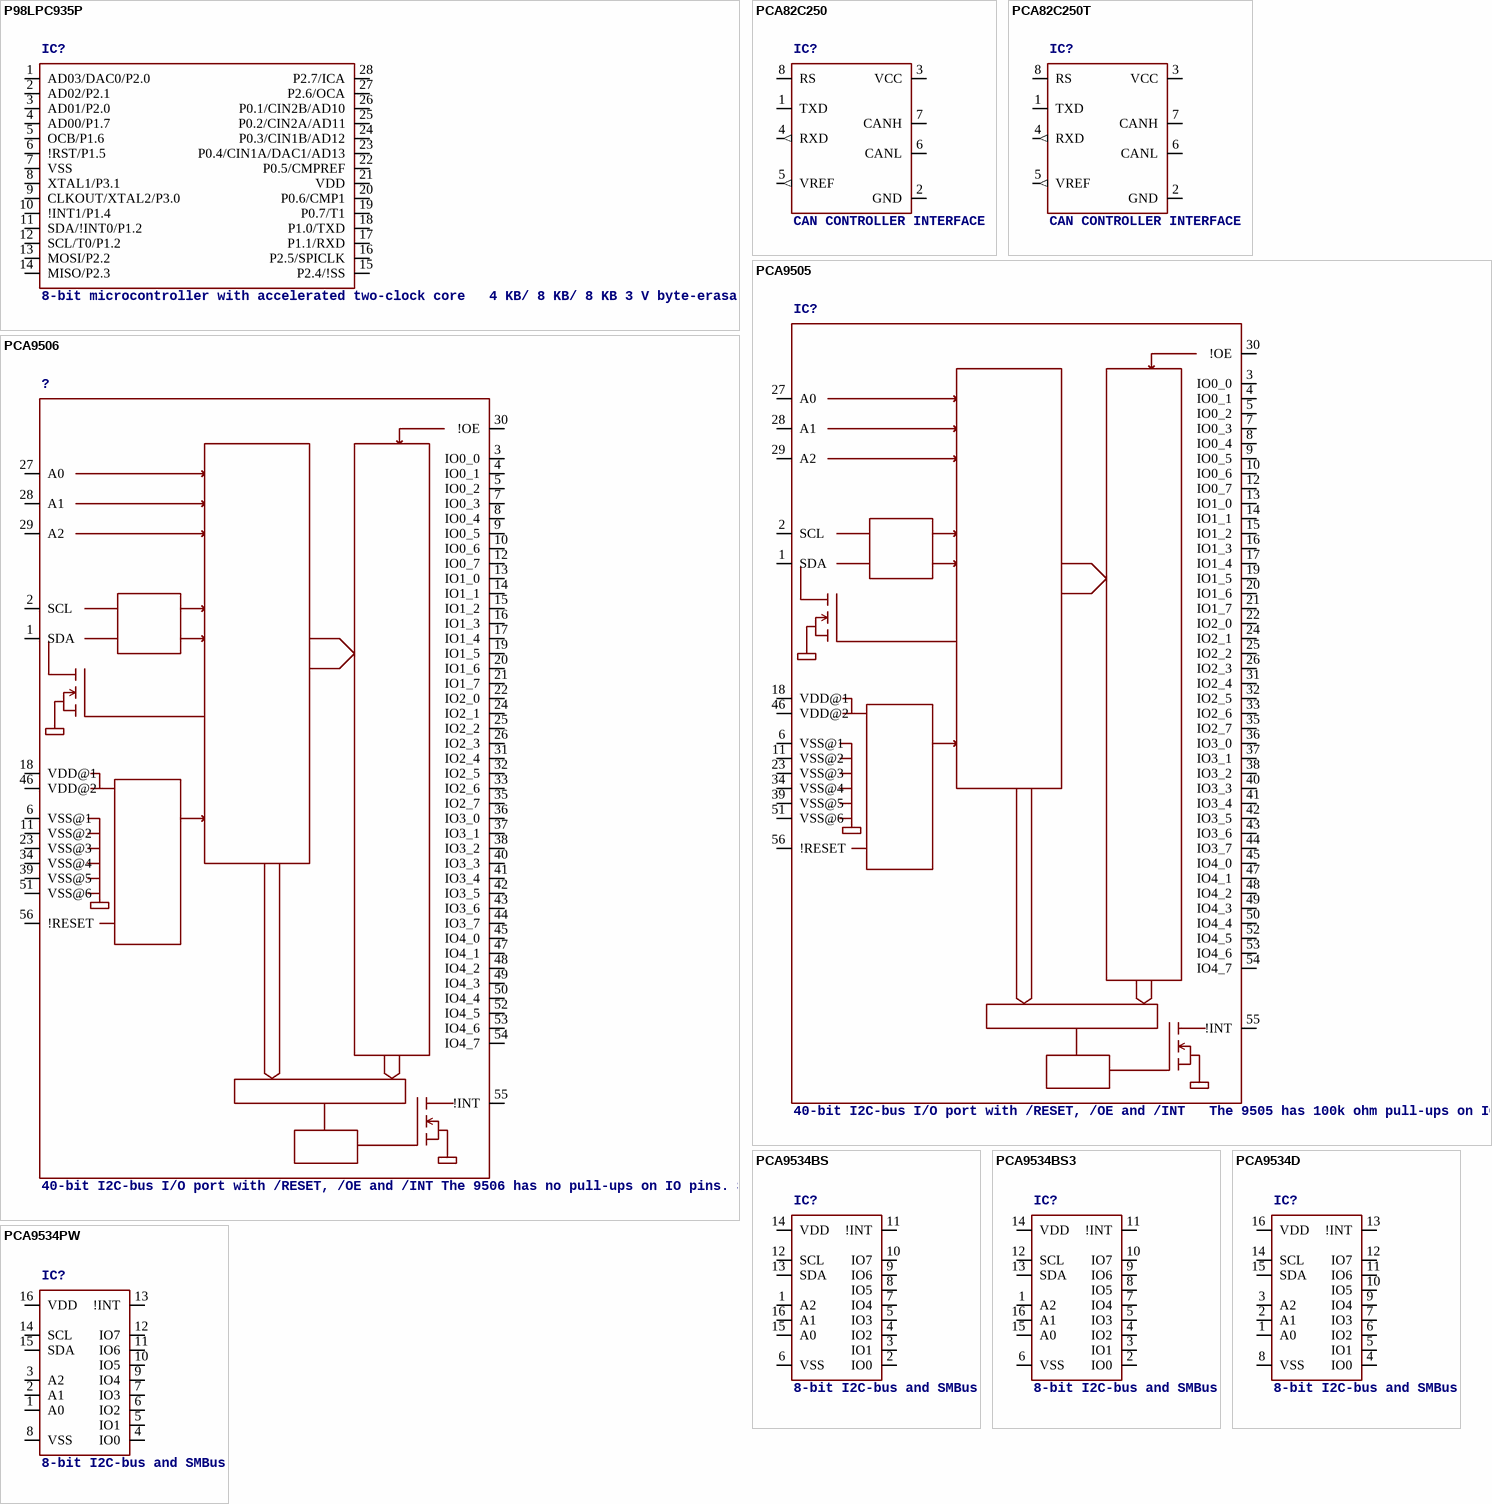
[diagram p4: symbols P98LPC935P to PCA9534PW]

## P98LPC935P
designator IC?, comment 8-bit microcontroller with accelerated two-clock core   4 KB/ 8 KB/ 8 KB 3 V byte-erasable Flash with 8-bit A/D converter Source: http://www.nxp.com .. UM_P89LPC933_934_935_1.pdf
OC_FARNELL: unknown; OC_NEWARK: unknown
footprint DIL28
pins: 1 AD03/DAC0/P2.0, 2 AD02/P2.1, 3 AD01/P2.0, 4 AD00/P1.7, 5 OCB/P1.6, 6 !RST/P1.5, 7 VSS, 8 XTAL1/P3.1, 9 CLKOUT/XTAL2/P3.0, 10 !INT1/P1.4, 11 SDA/!INT0/P1.2, 12 SCL/T0/P1.2, 13 MOSI/P2.2, 14 MISO/P2.3, 15 P2.4/!SS, 16 P2.5/SPICLK, 17 P1.1/RXD, 18 P1.0/TXD, 19 P0.7/T1, 20 P0.6/CMP1, 21 VDD, 22 P0.5/CMPREF, 23 P0.4/CIN1A/DAC1/AD13, 24 P0.3/CIN1B/AD12, 25 P0.2/CIN2A/AD11, 26 P0.1/CIN2B/AD10, 27 P2.6/OCA, 28 P2.7/ICA

## PCA82C250
designator IC?, comment CAN CONTROLLER INTERFACE
OC_FARNELL: 3692358; OC_NEWARK: unknown
footprint DIL08
pins: 1 TXD, 2 GND (power), 3 VCC (power), 4 RXD (out), 5 VREF (out), 6 CANL, 7 CANH, 8 RS

## PCA82C250T
designator IC?, comment CAN CONTROLLER INTERFACE
OC_FARNELL: 1085275; OC_NEWARK: unknown
footprint SO8
pins: 1 TXD, 2 GND (power), 3 VCC (power), 4 RXD (out), 5 VREF (out), 6 CANL, 7 CANH, 8 RS

## PCA9505
designator IC?, comment 40-bit I2C-bus I/O port with /RESET, /OE and /INT   The 9505 has 100k ohm pull-ups on IO pins. Source: http://www.nxp.com/acrobat_download/datasheets/PCA9505_9506_3.pdf
MPN: PCA9505DGG,118; OC_FARNELL: unknown; OC_NEWARK: 70R6450
footprint TSSOP56-6
pins: 1 SDA, 2 SCL, 3 IO0_0, 4 IO0_1, 5 IO0_2, 6 VSS@1 (power), 7 IO0_3, 8 IO0_4, 9 IO0_5, 10 IO0_6, 11 VSS@2 (power), 12 IO0_7, 13 IO1_0, 14 IO1_1, 15 IO1_2, 16 IO1_3, 17 IO1_4, 18 VDD@1 (power), 19 IO1_5, 20 IO1_6, 21 IO1_7, 22 IO2_0, 23 VSS@3 (power), 24 IO2_1, 25 IO2_2, 26 IO2_3, 27 A0, 28 A1, 29 A2, 30 !OE, 31 IO2_4, 32 IO2_5, 33 IO2_6, 34 VSS@4 (power), 35 IO2_7, 36 IO3_0, 37 IO3_1, 38 IO3_2, 39 VSS@5 (power), 40 IO3_3, 41 IO3_4, 42 IO3_5, 43 IO3_6, 44 IO3_7, 45 IO4_0, 46 VDD@2 (power), 47 IO4_1, 48 IO4_2, 49 IO4_3, 50 IO4_4, 51 VSS@6 (power), 52 IO4_5, 53 IO4_6, 54 IO4_7, 55 !INT, 56 !RESET

## PCA9506
designator ?, comment 40-bit I2C-bus I/O port with /RESET, /OE and /INT The 9506 has no pull-ups on IO pins. Source:  http://www.nxp.com/acrobat_download/datasheets/PCA9505_9506_3.pdf
MPN: PCA9506DGG,512; OC_FARNELL: unknown; OC_NEWARK: 70R6452
footprint TSSOP56-6
pins: 1 SDA, 2 SCL, 3 IO0_0, 4 IO0_1, 5 IO0_2, 6 VSS@1 (power), 7 IO0_3, 8 IO0_4, 9 IO0_5, 10 IO0_6, 11 VSS@2 (power), 12 IO0_7, 13 IO1_0, 14 IO1_1, 15 IO1_2, 16 IO1_3, 17 IO1_4, 18 VDD@1 (power), 19 IO1_5, 20 IO1_6, 21 IO1_7, 22 IO2_0, 23 VSS@3 (power), 24 IO2_1, 25 IO2_2, 26 IO2_3, 27 A0, 28 A1, 29 A2, 30 !OE, 31 IO2_4, 32 IO2_5, 33 IO2_6, 34 VSS@4 (power), 35 IO2_7, 36 IO3_0, 37 IO3_1, 38 IO3_2, 39 VSS@5 (power), 40 IO3_3, 41 IO3_4, 42 IO3_5, 43 IO3_6, 44 IO3_7, 45 IO4_0, 46 VDD@2 (power), 47 IO4_1, 48 IO4_2, 49 IO4_3, 50 IO4_4, 51 VSS@6 (power), 52 IO4_5, 53 IO4_6, 54 IO4_7, 55 !INT, 56 !RESET

## PCA9534BS
designator IC?, comment 8-bit I2C-bus and SMBus low power I/O port with interrupt   Source: www.nxp.com .. PCA9534_3.pdf
MPN: PCA9534BS,118; OC_FARNELL: unknown; OC_NEWARK: 70R6525
footprint HVQFN16_4X4
pins: 1 A2, 2 IO0, 3 IO1, 4 IO2, 5 IO3, 6 VSS (power), 7 IO4, 8 IO5, 9 IO6, 10 IO7, 11 !INT (oc), 12 SCL, 13 SDA, 14 VDD (power), 15 A0, 16 A1

## PCA9534BS3
designator IC?, comment 8-bit I2C-bus and SMBus low power I/O port with interrupt   Source: www.nxp.com .. PCA9534_3.pdf
MPN: PCA9534BS3,118; OC_FARNELL: unknown; OC_NEWARK: 70R6526
footprint HVQFN16_3X3
pins: 1 A2, 2 IO0, 3 IO1, 4 IO2, 5 IO3, 6 VSS (power), 7 IO4, 8 IO5, 9 IO6, 10 IO7, 11 !INT (oc), 12 SCL, 13 SDA, 14 VDD (power), 15 A0, 16 A1

## PCA9534D
designator IC?, comment 8-bit I2C-bus and SMBus low power I/O port with interrupt   Source: www.nxp.com .. PCA9534_3.pdf
MPN: PCA9534DB; OC_FARNELL: 1408284; OC_NEWARK: 18M7513
footprint SO16W
pins: 1 A0, 2 A1, 3 A2, 4 IO0, 5 IO1, 6 IO2, 7 IO3, 8 VSS (power), 9 IO4, 10 IO5, 11 IO6, 12 IO7, 13 !INT (oc), 14 SCL, 15 SDA, 16 VDD (power)

## PCA9534PW
designator IC?, comment 8-bit I2C-bus and SMBus low power I/O port with interrupt   Source: www.nxp.com .. PCA9534_3.pdf
MPN: PCA9534PW; OC_FARNELL: 1408285; OC_NEWARK: 18M7516
footprint TSSOP16
pins: 1 A0, 2 A1, 3 A2, 4 IO0, 5 IO1, 6 IO2, 7 IO3, 8 VSS (power), 9 IO4, 10 IO5, 11 IO6, 12 IO7, 13 !INT (oc), 14 SCL, 15 SDA, 16 VDD (power)

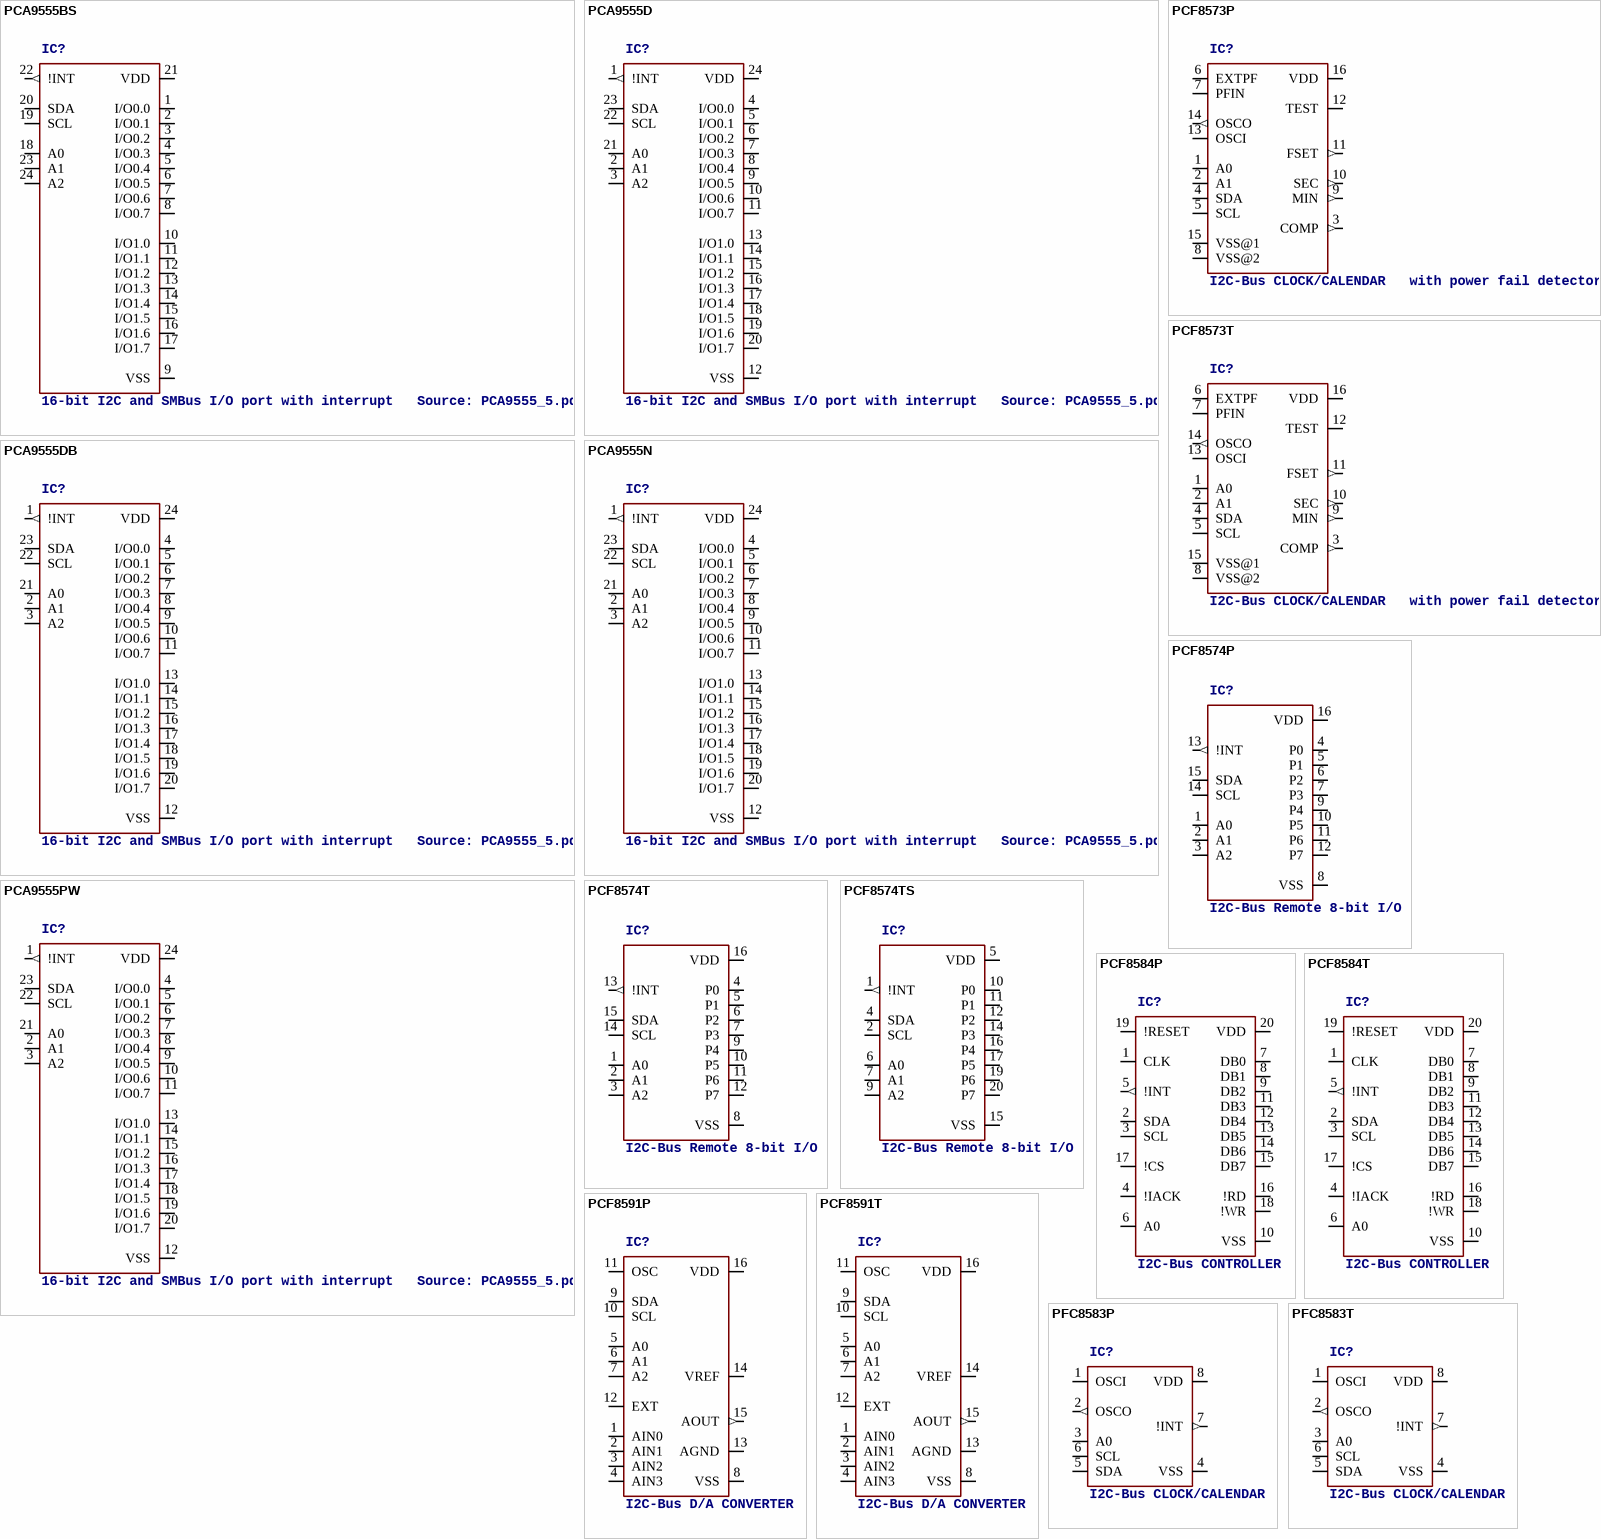
[diagram p5: symbols PCA9555BS to PFC8583T]

## PCA9555BS
designator IC?, comment 16-bit I2C and SMBus I/O port with interrupt   Source: PCA9555_5.pdf
MPN: PCA9555BS,118; OC_FARNELL: 1575354; OC_NEWARK: 70R6671
footprint HVQFN24
pins: 1 I/O0.0, 2 I/O0.1, 3 I/O0.2, 4 I/O0.3, 5 I/O0.4, 6 I/O0.5, 7 I/O0.6, 8 I/O0.7, 9 VSS (power), 10 I/O1.0, 11 I/O1.1, 12 I/O1.2, 13 I/O1.3, 14 I/O1.4, 15 I/O1.5, 16 I/O1.6, 17 I/O1.7, 18 A0, 19 SCL, 20 SDA, 21 VDD (power), 22 !INT (out), 23 A1, 24 A2

## PCA9555D
designator IC?, comment 16-bit I2C and SMBus I/O port with interrupt   Source: PCA9555_5.pdf
MPN: PCA9555DW; OC_FARNELL: 1408295; OC_NEWARK: 63K6067
footprint SO24
pins: 1 !INT (out), 2 A1, 3 A2, 4 I/O0.0, 5 I/O0.1, 6 I/O0.2, 7 I/O0.3, 8 I/O0.4, 9 I/O0.5, 10 I/O0.6, 11 I/O0.7, 12 VSS (power), 13 I/O1.0, 14 I/O1.1, 15 I/O1.2, 16 I/O1.3, 17 I/O1.4, 18 I/O1.5, 19 I/O1.6, 20 I/O1.7, 21 A0, 22 SCL, 23 SDA, 24 VDD (power)

## PCA9555DB
designator IC?, comment 16-bit I2C and SMBus I/O port with interrupt   Source: PCA9555_5.pdf
MPN: PCA9555DB; OC_FARNELL: 1408295; OC_NEWARK: 63K6063
footprint SSOP24
pins: 1 !INT (out), 2 A1, 3 A2, 4 I/O0.0, 5 I/O0.1, 6 I/O0.2, 7 I/O0.3, 8 I/O0.4, 9 I/O0.5, 10 I/O0.6, 11 I/O0.7, 12 VSS (power), 13 I/O1.0, 14 I/O1.1, 15 I/O1.2, 16 I/O1.3, 17 I/O1.4, 18 I/O1.5, 19 I/O1.6, 20 I/O1.7, 21 A0, 22 SCL, 23 SDA, 24 VDD (power)

## PCA9555N
designator IC?, comment 16-bit I2C and SMBus I/O port with interrupt   Source: PCA9555_5.pdf
MPN: PCA9555N,112; OC_FARNELL: unknown; OC_NEWARK: 70R6677
footprint DIL24-6
pins: 1 !INT (out), 2 A1, 3 A2, 4 I/O0.0, 5 I/O0.1, 6 I/O0.2, 7 I/O0.3, 8 I/O0.4, 9 I/O0.5, 10 I/O0.6, 11 I/O0.7, 12 VSS (power), 13 I/O1.0, 14 I/O1.1, 15 I/O1.2, 16 I/O1.3, 17 I/O1.4, 18 I/O1.5, 19 I/O1.6, 20 I/O1.7, 21 A0, 22 SCL, 23 SDA, 24 VDD (power)

## PCA9555PW
designator IC?, comment 16-bit I2C and SMBus I/O port with interrupt   Source: PCA9555_5.pdf
MPN: PCA9555PW; OC_FARNELL: 1408297; OC_NEWARK: 63K6069
footprint TSSOP24
pins: 1 !INT (out), 2 A1, 3 A2, 4 I/O0.0, 5 I/O0.1, 6 I/O0.2, 7 I/O0.3, 8 I/O0.4, 9 I/O0.5, 10 I/O0.6, 11 I/O0.7, 12 VSS (power), 13 I/O1.0, 14 I/O1.1, 15 I/O1.2, 16 I/O1.3, 17 I/O1.4, 18 I/O1.5, 19 I/O1.6, 20 I/O1.7, 21 A0, 22 SCL, 23 SDA, 24 VDD (power)

## PCF8573P
designator IC?, comment I2C-Bus CLOCK/CALENDAR   with power fail detector
OC_FARNELL: unknown; OC_NEWARK: unknown
footprint DIL16
pins: 1 A0, 2 A1, 3 COMP (out), 4 SDA, 5 SCL, 6 EXTPF, 7 PFIN, 8 VSS@2 (power), 9 MIN (out), 10 SEC (out), 11 FSET (out), 12 TEST, 13 OSCI, 14 OSCO (out), 15 VSS@1 (power), 16 VDD (power)

## PCF8573T
designator IC?, comment I2C-Bus CLOCK/CALENDAR   with power fail detector
OC_FARNELL: unknown; OC_NEWARK: unknown
footprint SO16W
pins: 1 A0, 2 A1, 3 COMP (out), 4 SDA, 5 SCL, 6 EXTPF, 7 PFIN, 8 VSS@2 (power), 9 MIN (out), 10 SEC (out), 11 FSET (out), 12 TEST, 13 OSCI, 14 OSCO (out), 15 VSS@1 (power), 16 VDD (power)

## PCF8574P
designator IC?, comment I2C-Bus Remote 8-bit I/O expander   http://www.semiconductors.philips.com/acrobat_download/datasheets/PCF8574_4.pdf
MPN: PCF8574PN; OC_FARNELL: 204020; OC_NEWARK: 11N8515
footprint DIL16
pins: 1 A0, 2 A1, 3 A2, 4 P0, 5 P1, 6 P2, 7 P3, 8 VSS (power), 9 P4, 10 P5, 11 P6, 12 P7, 13 !INT (out), 14 SCL, 15 SDA, 16 VDD (power)

## PCF8574T
designator IC?, comment I2C-Bus Remote 8-bit I/O expander   http://www.semiconductors.philips.com/acrobat_download/datasheets/PCF8574_4.pdf
MPN: PCF8574T/3,512; OC_FARNELL: 1201255; OC_NEWARK: 70R6870
footprint SO16W
pins: 1 A0, 2 A1, 3 A2, 4 P0, 5 P1, 6 P2, 7 P3, 8 VSS (power), 9 P4, 10 P5, 11 P6, 12 P7, 13 !INT (out), 14 SCL, 15 SDA, 16 VDD (power)

## PCF8574TS
designator IC?, comment I2C-Bus Remote 8-bit I/O expander   http://www.semiconductors.philips.com/acrobat_download/datasheets/PCF8574_4.pdf
MPN: PCF8574TS/3,118; OC_FARNELL: 1506644; OC_NEWARK: 70R6873
footprint SSOP20
pins: 1 !INT (out), 2 SCL, 4 SDA, 5 VDD (power), 6 A0, 7 A1, 9 A2, 10 P0, 11 P1, 12 P2, 14 P3, 15 VSS (power), 16 P4, 17 P5, 19 P6, 20 P7

## PCF8584P
designator IC?, comment I2C-Bus CONTROLLER
MPN: PCF8584P,112; MF: FARNELL; OC_FARNELL: 8906220; OC_NEWARK: 18K6671
footprint DIL20
pins: 1 CLK, 2 SDA, 3 SCL, 4 !IACK, 5 !INT (out), 6 A0, 7 DB0, 8 DB1, 9 DB2, 10 VSS (power), 11 DB3, 12 DB4, 13 DB5, 14 DB6, 15 DB7, 16 !RD, 17 !CS, 18 !WR, 19 !RESET, 20 VDD (power)

## PCF8584T
designator IC?, comment I2C-Bus CONTROLLER
MPN: PCF8584T/2,512; OC_FARNELL: 1831225; OC_NEWARK: 70R6908
footprint SO20W
pins: 1 CLK, 2 SDA, 3 SCL, 4 !IACK, 5 !INT (out), 6 A0, 7 DB0, 8 DB1, 9 DB2, 10 VSS (power), 11 DB3, 12 DB4, 13 DB5, 14 DB6, 15 DB7, 16 !RD, 17 !CS, 18 !WR, 19 !RESET, 20 VDD (power)

## PCF8591P
designator IC?, comment I2C-Bus D/A CONVERTER
MPN: PCF8591P; MF: FARNELL; OC_FARNELL: 396412; OC_NEWARK: 07WX3385
footprint DIL16
pins: 1 AIN0, 2 AIN1, 3 AIN2, 4 AIN3, 5 A0, 6 A1, 7 A2, 8 VSS (power), 9 SDA, 10 SCL, 11 OSC, 12 EXT, 13 AGND (power), 14 VREF, 15 AOUT (out), 16 VDD (power)

## PCF8591T
designator IC?, comment I2C-Bus D/A CONVERTER
MPN: PCF8591T/2,512; OC_FARNELL: 1826767; OC_NEWARK: 70R6911
footprint SO16W
pins: 1 AIN0, 2 AIN1, 3 AIN2, 4 AIN3, 5 A0, 6 A1, 7 A2, 8 VSS (power), 9 SDA, 10 SCL, 11 OSC, 12 EXT, 13 AGND (power), 14 VREF, 15 AOUT (out), 16 VDD (power)

## PFC8583P
designator IC?, comment I2C-Bus CLOCK/CALENDAR
OC_FARNELL: unknown; OC_NEWARK: unknown
footprint DIL08
pins: 1 OSCI, 2 OSCO (out), 3 A0, 4 VSS (power), 5 SDA, 6 SCL, 7 !INT (out), 8 VDD (power)

## PFC8583T
designator IC?, comment I2C-Bus CLOCK/CALENDAR
OC_FARNELL: unknown; OC_NEWARK: unknown
footprint SO8-7_5
pins: 1 OSCI, 2 OSCO (out), 3 A0, 4 VSS (power), 5 SDA, 6 SCL, 7 !INT (out), 8 VDD (power)

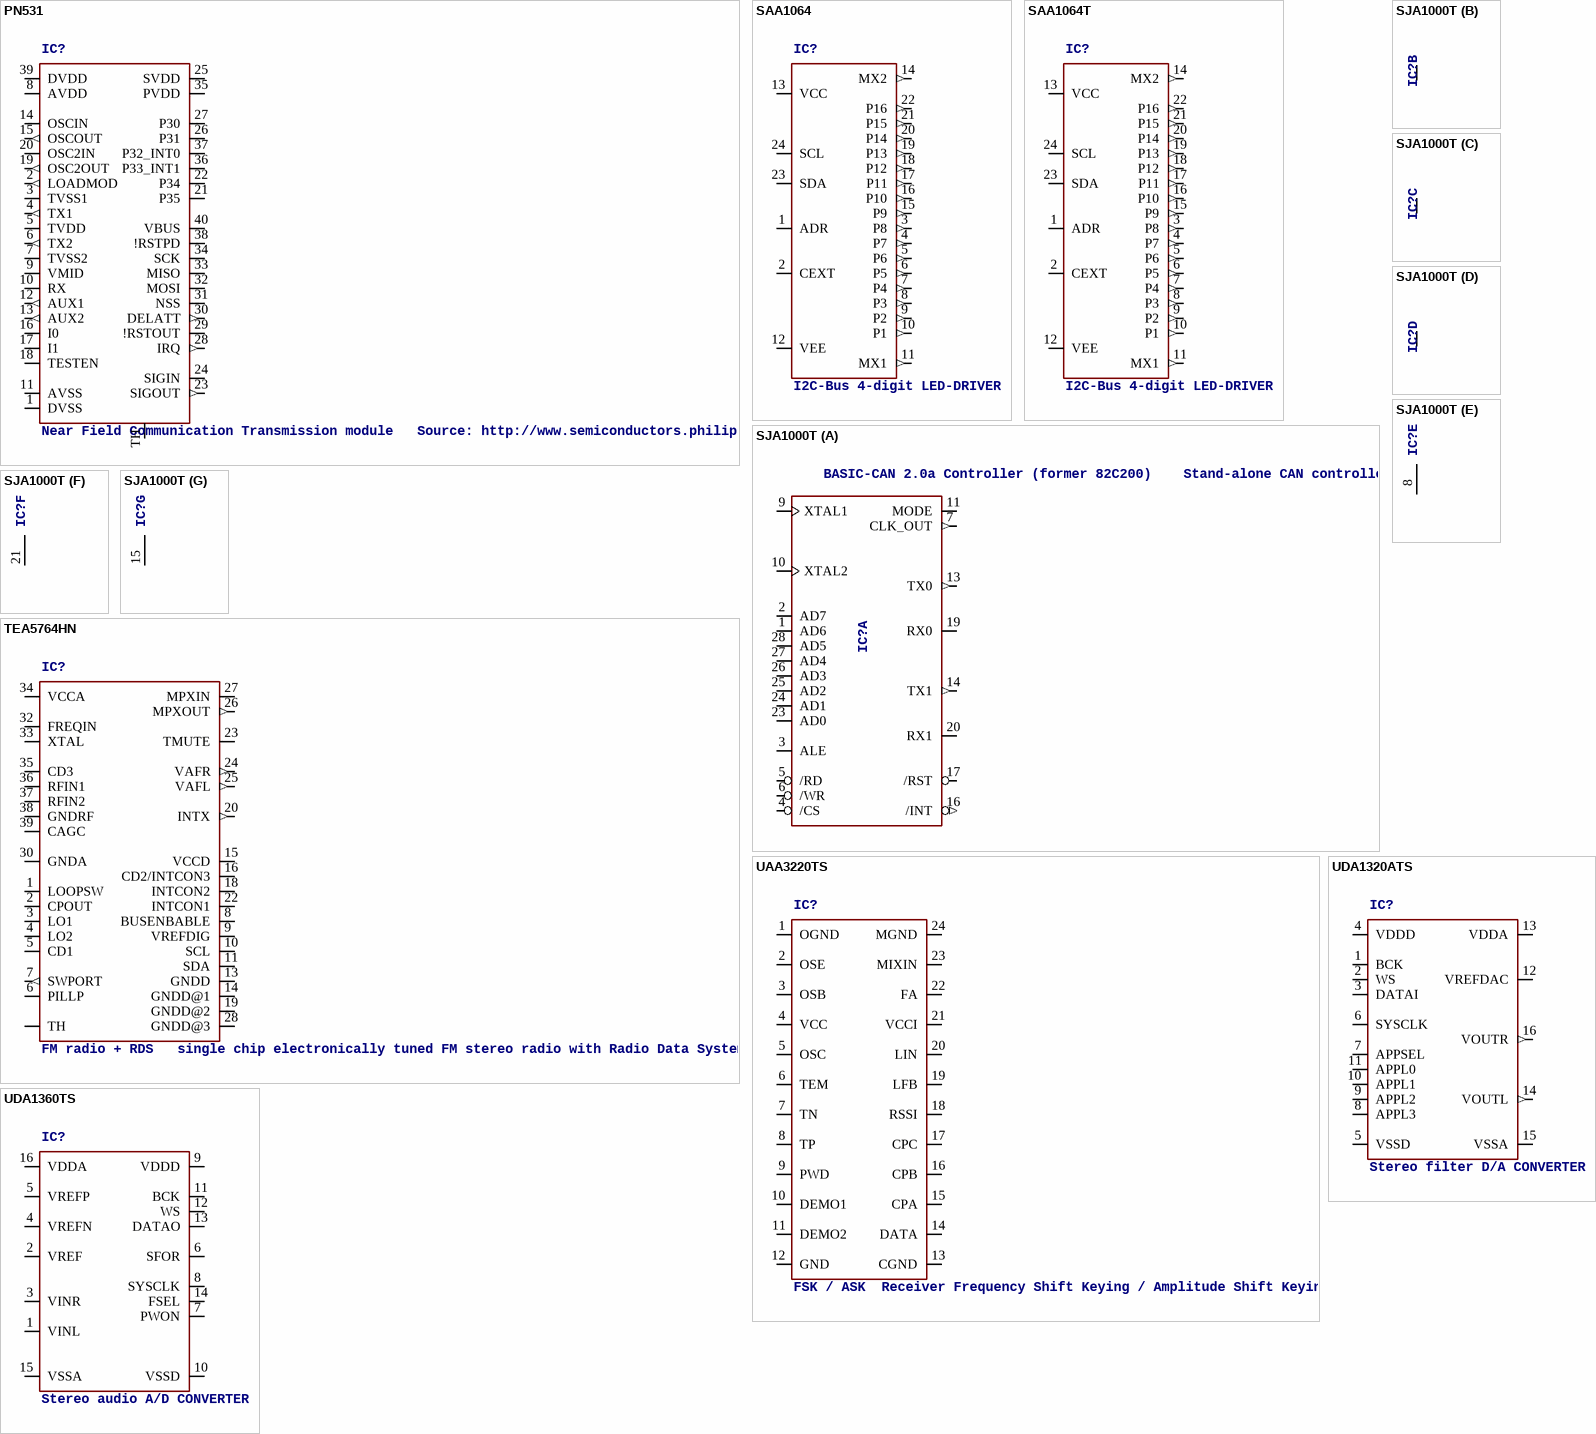
[diagram p6: symbols PN531 to UDA1360TS]

## PN531
designator IC?, comment Near Field Communication Transmission module   Source: http://www.semiconductors.philips.com/acrobat_download/other/identification/sfs_pn531_rev2.0.pdf
MPN: PN5310A3HN/C203,51; OC_FARNELL: unknown; OC_NEWARK: 70R7886
footprint HVQFN40
pins: 1 DVSS (power), 2 LOADMOD (out), 3 TVSS1 (power), 4 TX1 (out), 5 TVDD (power), 6 TX2 (out), 7 TVSS2 (power), 8 AVDD (power), 9 VMID (power), 10 RX, 11 AVSS (power), 12 AUX1 (out), 13 AUX2 (out), 14 OSCIN, 15 OSCOUT (out), 16 I0, 17 I1, 18 TESTEN, 19 OSC2OUT (out), 20 OSC2IN, 21 P35, 22 P34, 23 SIGOUT (out), 24 SIGIN, 25 SVDD (power), 26 P31, 27 P30, 28 IRQ (out), 29 !RSTOUT, 30 DELATT (out), 31 NSS, 32 MOSI, 33 MISO, 34 SCK, 35 PVDD (power), 36 P33_INT1, 37 P32_INT0, 38 !RSTPD, 39 DVDD, 40 VBUS, TH

## SAA1064
designator IC?, comment I2C-Bus 4-digit LED-DRIVER
MPN: SAA1064/N2,112; OC_FARNELL: 1627002; OC_NEWARK: 70R8646
footprint DIL24-6
pins: 1 ADR, 2 CEXT, 3 P8 (out), 4 P7 (out), 5 P6 (out), 6 P5 (out), 7 P4 (out), 8 P3 (out), 9 P2 (out), 10 P1 (out), 11 MX1 (out), 12 VEE (power), 13 VCC (power), 14 MX2 (out), 15 P9 (out), 16 P10 (out), 17 P11 (out), 18 P12 (out), 19 P13 (out), 20 P14 (out), 21 P15 (out), 22 P16 (out), 23 SDA, 24 SCL

## SAA1064T
designator IC?, comment I2C-Bus 4-digit LED-DRIVER
MPN: SAA1064T/N2,118; OC_FARNELL: unknown; OC_NEWARK: 70R8648
footprint SO24
pins: 1 ADR, 2 CEXT, 3 P8 (out), 4 P7 (out), 5 P6 (out), 6 P5 (out), 7 P4 (out), 8 P3 (out), 9 P2 (out), 10 P1 (out), 11 MX1 (out), 12 VEE (power), 13 VCC (power), 14 MX2 (out), 15 P9 (out), 16 P10 (out), 17 P11 (out), 18 P12 (out), 19 P13 (out), 20 P14 (out), 21 P15 (out), 22 P16 (out), 23 SDA, 24 SCL

## SJA1000T
designator IC?, comment BASIC-CAN 2.0a Controller (former 82C200)    Stand-alone CAN controller
MPN: SJA1000T/N1; OC_FARNELL: 1775880; OC_NEWARK: 52R2325
footprint SO-28L
part A pins: 1 AD6 (hiz), 2 AD7 (hiz), 3 ALE, 4 /CS, 5 /RD, 6 /WR, 7 CLK_OUT (out), 9 XTAL1, 10 XTAL2, 11 MODE, 13 TX0 (out), 14 TX1 (out), 16 /INT (out), 17 /RST, 19 RX0, 20 RX1, 23 AD0 (hiz), 24 AD1 (hiz), 25 AD2 (hiz), 26 AD3 (hiz), 27 AD4 (hiz), 28 AD5 (hiz)
part B pins: 22 VDD (power)
part C pins: 18 VDD (power)
part D pins: 12 VDD (power)
part E pins: 8 VSS (power)
part F pins: 21 VSS (power)
part G pins: 15 VSS (power)

## TEA5764HN
designator IC?, comment FM radio + RDS   single chip electronically tuned FM stereo radio with Radio Data System (RDS) and Radio Broadcast Data System (RBDS) demodulator and RDS/RBDS decoder for portable application with fully integrated IF selectivity and demodulation. Source: http://www.nxp.com .. TEA5764HN_2.pdf
OC_FARNELL: unknown; OC_NEWARK: unknown
footprint HVQFN40
pins: 1 LOOPSW, 2 CPOUT, 3 LO1, 4 LO2, 5 CD1, 6 PILLP, 7 SWPORT (out), 8 BUSENBABLE, 9 VREFDIG, 10 SCL, 11 SDA, 13 GNDD (power), 14 GNDD@1 (power), 15 VCCD (power), 16 CD2/INTCON3, 18 INTCON2, 19 GNDD@2 (power), 20 INTX (out), 22 INTCON1, 23 TMUTE, 24 VAFR (out), 25 VAFL (out), 26 MPXOUT (out), 27 MPXIN, 28 GNDD@3 (power), 30 GNDA, 32 FREQIN, 33 XTAL, 34 VCCA, 35 CD3, 36 RFIN1, 37 RFIN2, 38 GNDRF, 39 CAGC, TH

## UAA3220TS
designator IC?, comment FSK / ASK  Receiver Frequency Shift Keying / Amplitude Shift Keying
MPN: UAA3220TS/V1,118; OC_FARNELL: unknown; OC_NEWARK: 70R9521
footprint SSOP24
pins: 1 OGND (power), 2 OSE, 3 OSB, 4 VCC (power), 5 OSC (oc), 6 TEM, 7 TN (oc), 8 TP (oc), 9 PWD, 10 DEMO1, 11 DEMO2, 12 GND (power), 13 CGND (power), 14 DATA, 15 CPA, 16 CPB, 17 CPC, 18 RSSI, 19 LFB, 20 LIN, 21 VCCI (power), 22 FA, 23 MIXIN, 24 MGND

## UDA1320ATS
designator IC?, comment Stereo filter D/A CONVERTER
OC_FARNELL: unknown; OC_NEWARK: unknown
footprint SSOP16
pins: 1 BCK, 2 WS, 3 DATAI, 4 VDDD (power), 5 VSSD (power), 6 SYSCLK, 7 APPSEL, 8 APPL3, 9 APPL2, 10 APPL1, 11 APPL0, 12 VREFDAC, 13 VDDA (power), 14 VOUTL (out), 15 VSSA (power), 16 VOUTR (out)

## UDA1360TS
designator IC?, comment Stereo audio A/D CONVERTER
OC_FARNELL: unknown; OC_NEWARK: unknown
footprint SSOP16
pins: 1 VINL, 2 VREF, 3 VINR, 4 VREFN, 5 VREFP, 6 SFOR, 7 PWON, 8 SYSCLK, 9 VDDD (power), 10 VSSD (power), 11 BCK, 12 WS, 13 DATAO, 14 FSEL, 15 VSSA (power), 16 VDDA (power)